# EAGLE library part C8051T604 (library wheat)
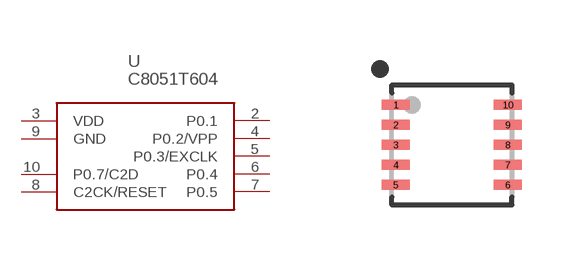
[diagram p198: symbol with the pads of QFN10_SILABS; footprint QFN10_SILABS]

Designator prefix -

## C8051T604-GM  [QFN10_SILABS]
2  P0.1
3  VDD  pwr
4  P0.2/VPP
5  P0.3/EXCLK
6  P0.4
7  P0.5
8  C2CK/RESET
9  GND  pwr
10  P0.7/C2D

## Footprint QFN10_SILABS (pad centres in mm)
smd 0.7 x 0.25: 1 -1.4,1; 2 -1.4,0.5; 3 -1.4,0; 4 -1.4,-0.5; 5 -1.4,-1; 6 1.4,-1; 7 1.4,-0.5; 8 1.4,0; 9 1.4,0.5; 10 1.4,1